# Altium footprint library Passives.PcbLib: 66 footprints (part 2 of 5)
Each footprint in its own frame and in the unit in brackets; x right, y up, seen from the top. Pads: shape width x height; smd on the part's side, far side on the other; paste and mask are expansions set on the pad; w line width, h text height; cw(c..) or ccw(c..) is an arc to the next point about the centre after c.
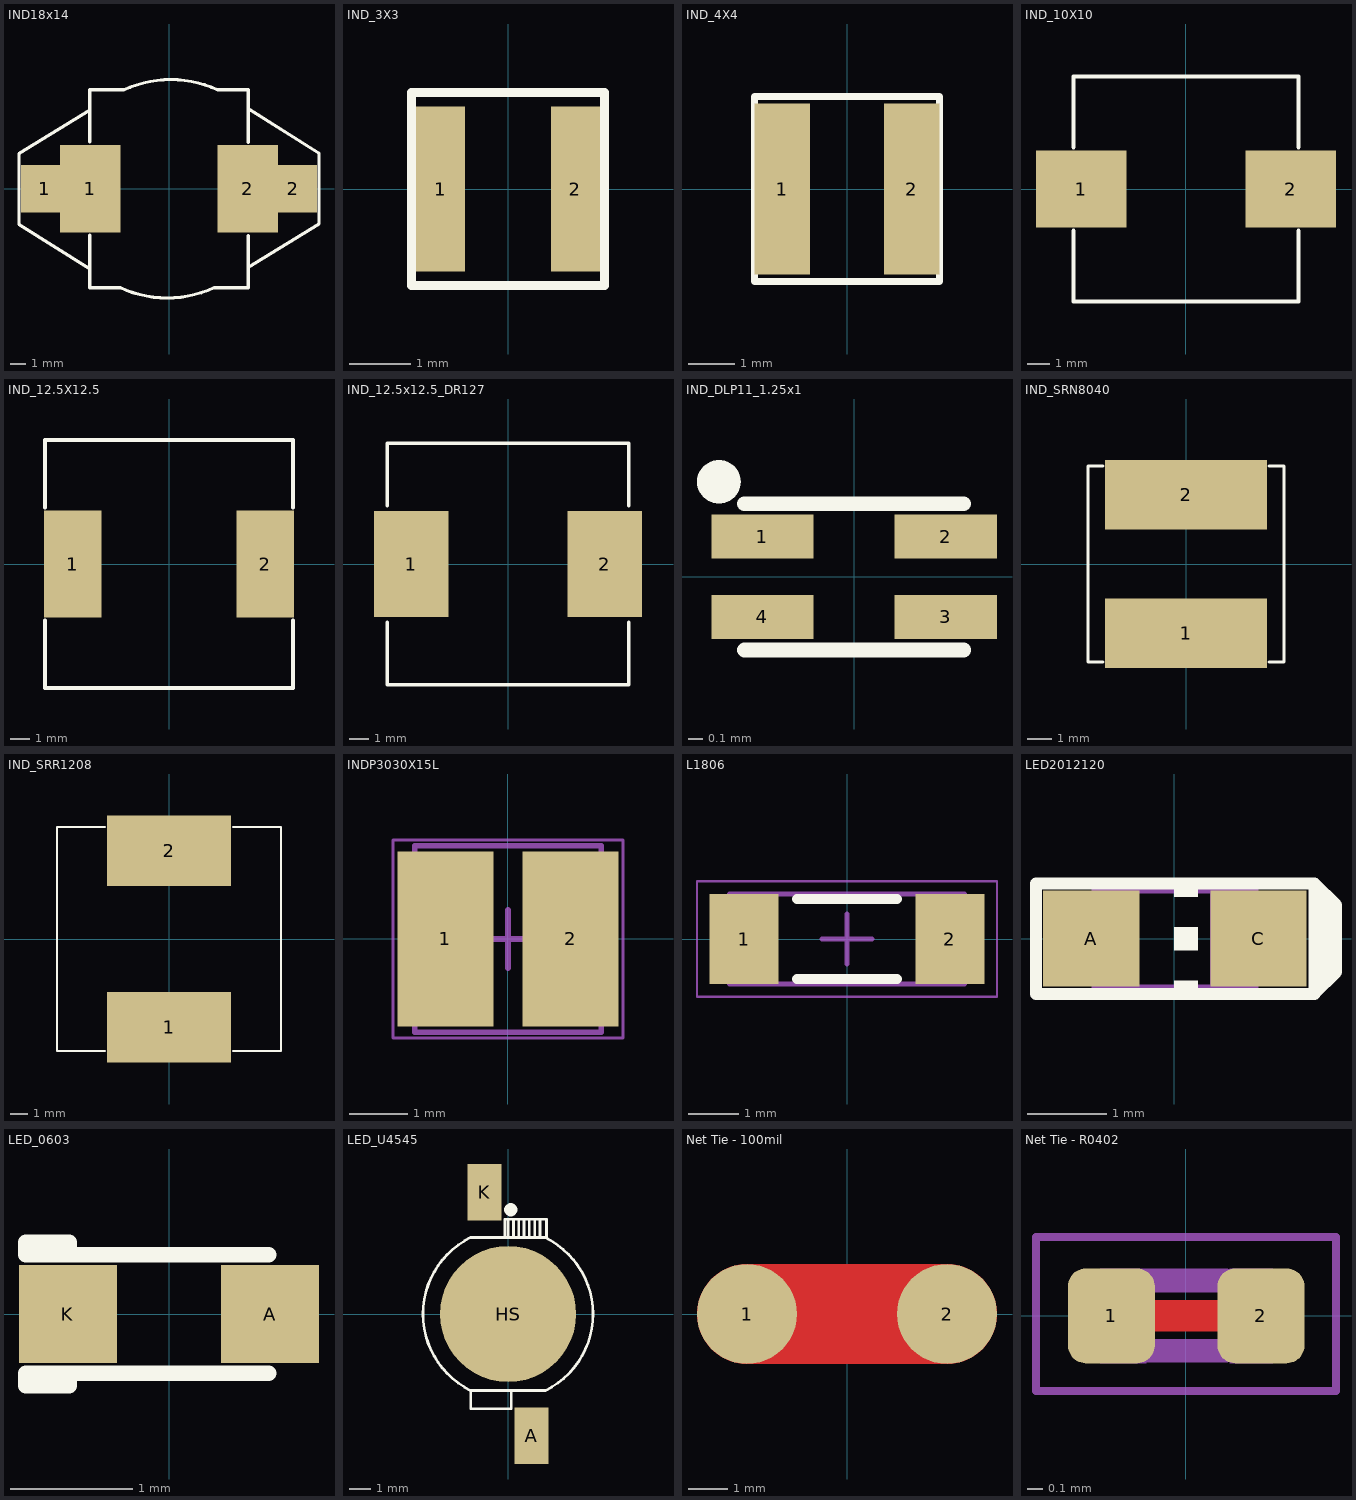
[diagram p1: the footprints below, top view; thin cyan lines are the x and y axes]

## IND18x14 [mm]
height 6.909
pads (4):
  rect 3x3 smd mask+0: 1(-7.85,0) 2(7.85,0)
  rect 3.85x5.5 smd paste-2.3 mask+0: 1(-4.975,0) 2(4.975,0)
Top Overlay:
  lines w0.203: -5,-2.925 -5,-6.25 -3.074,-6.25 ; -5,2.95 -5,6.25 -2.85,6.25 ; -4.999,4.973 -9.475,2.225 -9.475,-2.25 -4.998,-5.071 ; -3.074,-6.248 ccw(c-0.116,0.118) 2.848,-6.245 ; -2.848,6.245 cw(c0.116,-0.118) 3.074,6.248 ccw(c0.115,-0.132) -2.848,6.246 ; 2.85,-6.25 5,-6.25 5,-2.95 ; 3.074,6.25 5,6.25 5,2.925 ; 4.998,5.071 9.475,2.25 9.475,-2.225 4.999,-4.973
3D body "pm5022.stp": height 6.6, standoff 0, extent -9.15,-7 9.15,7

## IND_3X3 [mm]
pads (2):
  rect 0.8x2.7 smd mask+0: 1(-1.1,0) 2(1.1,0)
Top Overlay:
  lines w0.152: -1.575,-1.575 -1.575,1.575 1.575,1.575 1.575,-1.575 -1.575,-1.575
3D body: height 1.2, standoff 0, extent -1.5,-1.5 1.5,1.5

## IND_4X4 [mm]
pads (2):
  rect 1.2x3.7 smd mask+0: 1(-1.4,0) 2(1.4,0)
Top Overlay:
  lines w0.152: -2,-2 -2,2 2,2 2,-2 -2,-2
3D body: height 1.8, standoff 0, extent -2.076,-2.076 2.076,2.076

## IND_10X10 [mm]
height 3.8
pads (2):
  rect 4.1x3.5 smd: 1(-4.75,0) 2(4.75,0)
Top Overlay:
  lines w0.203: -5.1,-1.9 -5.1,-5.1 5.1,-5.1 5.1,-1.9 ; -5.1,1.9 -5.1,5.1 5.1,5.1 5.1,1.9
3D body: height 4, standoff 0, extent -5,-5 5,5

## IND_12.5X12.5 [mm]
height 7.5
pads (2):
  rect 2.9x5.4 smd: 1(-4.85,0) 2(4.85,0)
Top Overlay:
  lines w0.203: -6.25,-2.85 -6.25,-6.25 6.25,-6.25 6.25,-2.85 ; -6.25,2.85 -6.25,6.25 6.25,6.25 6.25,2.85
3D body: height 7.5, standoff 0, extent -6.25,-6.25 6.25,6.25

## IND_12.5x12.5_DR127 [mm]
pads (2):
  rect 3.85x5.5 smd mask+0.051: 1(-5,0) 2(5,0)
Top Overlay:
  lines w0.178: -6.25,-3 -6.25,-6.25 6.25,-6.25 6.25,-3 ; -6.25,3 -6.25,6.25 6.25,6.25 6.25,3
3D body: height 8, standoff 0, extent -6.25,-6.25 6.25,6.25

## IND_DLP11_1.25x1 [mm]
pads (5):
  rect 0.7x0.3 smd: 1(-0.627,0.275) 2(0.627,0.275) 3(0.627,-0.275) 4(-0.627,-0.275)
  round 0.3 on Top Overlay: ""(-0.925,0.65)
Top Overlay:
  lines w0.102: -0.75,-0.5 0.75,-0.5 ; -0.75,0.5 0.75,0.5
3D body: height 0.92, standoff 0, extent -0.75,-0.5 0.75,0.5

## IND_SRN8040 [mm]
pads (2):
  rect 6.6x2.85 smd mask+0: 1(0,-2.825) 2(0,2.825)
Top Overlay:
  lines w0.127: -3.4,-4 -4,-4 -4,4 -3.4,4 ; 3.4,-4 4,-4 4,4 3.4,4
3D body: height 4, standoff 0, extent -4,-4 4,4

## IND_SRR1208 [mm]
pads (2):
  rect 7x4 smd mask+0: 1(0,-5) 2(0,5)
Top Overlay:
  lines w0.127: -3.625,-6.35 -6.35,-6.35 -6.35,6.35 -3.625,6.35 ; 3.625,-6.35 6.35,-6.35 6.35,6.35 3.625,6.35
3D body: height 8.5, standoff 0, extent -6.35,-6.35 6.35,6.35

## INDP3030X15L [mm] "Precision Wire Wound Inductor, 2-Leads, Body 3.00x3.00mm, IPC High Density"
height 1.5
pads (2):
  rect 1.65x3 smd: 1(-1.075,0) 2(1.075,0)
Top Assembly:
  lines w0.1: -1.6,-1.6 1.6,-1.6 1.6,1.6 -1.6,1.6 -1.6,-1.6
Top Courtyard:
  lines w0.05: -1.975,-1.7 1.975,-1.7 1.975,1.7 -1.975,1.7 -1.975,-1.7
  lines w0.1: -0.5,0 0.5,0 ; 0,-0.5 0,0.5
3D body: height 1.5, standoff 0, extent -1.6,-1.6 1.6,1.6

## L1806 [mm] "Chip Inductor, 2-Leads, Body 4.50x1.60mm, IPC Medium Density"
height 1.8
pads (2):
  rect 1.38x1.8 smd: 1(-2.06,0) 2(2.06,0)
Top Overlay:
  lines w0.2: -1,-0.8 1,-0.8 ; -1,0.8 1,0.8
Mechanical 13:
  lines w0.1: -2.35,-0.9 -2.35,0.9 2.35,0.9 2.35,-0.9 -2.35,-0.9
Mechanical 15:
  lines w0.05: -3,-1.15 -3,1.15 3,1.15 3,-1.15 -3,-1.15
  lines w0.1: -0.5,0 0.5,0 ; 0,-0.5 0,0.5
3D body: height 1.8, standoff 0, extent -1.65,-0.9 1.65,0.9
3D body: height 1.8, standoff 0, extent -2.35,-0.9 -1.65,0.9
3D body: height 1.8, standoff 0, extent 1.65,-0.9 2.35,0.9

## LED2012120 [mil]
pads (2):
  rect 48x48 smd: A(-41.34,0) C(42,0)
Top Overlay:
  region: 0,5.9 0,-6 12,-6 12,5.9
  region: 0,-21 0,-27 12,-27 12,-21
  region: 0,26.57 0,20.67 12,20.67 12,26.57
  lines w6: 75.79,-21.65 75.79,19.68 ; 69.88,-27.56 69.88,27.56 ; 69.88,-27.56 -68.9,-27.56 -68.9,27.56 69.88,27.56 ; 69.88,-27.56 80.71,-16.73 80.71,16.73 69.88,27.56
Mechanical 8:
  region: -41.34,26.57 -41.34,-27 -17.72,-27 -17.72,26.57
  region: 18,26.57 18,-27 42,-27 42,26.57
  lines w4: -18.7,-25 18,-25 ; -17.72,24.61 18,24.61
3D body: height 11.81, standoff 0, extent -50,-25 50,25
3D body: height 27.56, standoff 0, extent -30,-25 30,25
3D body: height 15.75, standoff 0, extent 20,-10 35,10

## LED_0603 [mm]
pads (2):
  rect 0.8x0.8 smd: A(0.825,0) K(-0.825,0)
Top Overlay:
  lines w0.127: 0.813,-0.483 -0.813,-0.483 ; 0.813,0.483 -0.813,0.483 ; -0.813,-0.483 -1.168,-0.483 -1.168,-0.584 -0.813,-0.584 -0.813,-0.483 ; -0.813,0.483 -1.168,0.483 -1.168,0.584 -0.813,0.584 -0.813,0.483
3D body "SML-D12x1.step": height 0.55, standoff 0, extent -0.8,-0.4 0.8,0.4

## LED_U4545 [mm]
pads (4):
  rect 1.6x2.65 smd mask+0.051: A(1.1,-5.725) K(-1.1,5.725)
  round 6.4 smd paste-3.226 mask+0.051: HS(0,0)
  round 0.635 on Top Overlay mask+0.051: ""(0.125,4.9)
Top Overlay:
  lines w0.127: -1.75,3.6 1.8,3.6 1.8,4.45 -0.15,4.45 -0.15,3.6 ; -1.749,-3.597 cw(c0,0) -1.749,3.597 ; 0,3.6 0,4.45 ; 0.15,-3.6 0.15,-4.45 -1.75,-4.45 -1.75,-3.6 1.749,-3.6 ; 0.25,3.6 0.25,4.45 ; 0.5,3.6 0.5,4.45 ; 0.75,3.6 0.75,4.45 ; 1,3.6 1,4.45 ; 1.25,3.6 1.25,4.45 ; 1.5,3.6 1.5,4.45 ; 1.724,3.598 cw(c-0.01,-0.006) 1.749,-3.599
Top Paste:
  region: -0.275,-0.275 -2.65,-0.275 -2.65,-0.509 -2.559,-0.968 -2.38,-1.4 -2.12,-1.789 -1.789,-2.12 -1.4,-2.38 -0.968,-2.559 -0.509,-2.65 -0.275,-2.65
  region: -0.275,0.275 -0.275,2.65 -0.509,2.65 -0.968,2.559 -1.4,2.38 -1.789,2.12 -2.12,1.789 -2.38,1.4 -2.559,0.968 -2.65,0.509 -2.65,0.275
  region: 0.275,0.275 2.65,0.275 2.65,0.509 2.559,0.968 2.38,1.4 2.12,1.789 1.789,2.12 1.4,2.38 0.968,2.559 0.509,2.65 0.275,2.65
  region: 0.275,-0.275 0.275,-2.65 0.509,-2.65 0.968,-2.559 1.4,-2.38 1.789,-2.12 2.12,-1.789 2.38,-1.4 2.559,-0.968 2.65,-0.509 2.65,-0.275
3D body: height 5.2, standoff 0, extent -4,-3.6 4,3.6

## Net Tie - 100mil [mm]
pads (2):
  round 2.54 smd paste-2.54 mask-2.54: 1(-2.54,0) 2(2.54,0)
Top Layer:
  lines w2.54: -2.54,0 2.54,0
Top Solder:
  rectangle: -1.524,-1.372 1.524,1.372
Mechanical 8:
  rectangle: -0.554,-0.305 -0.254,0.305
  rectangle: 0.279,-0.305 0.559,0.305
  lines w0.152: -0.245,-0.224 0.254,-0.224 ; -0.245,0.229 0.254,0.229

## Net Tie - R0402 [mil]
pads (2):
  rrect40% 22x24 smd: 1(-18.9,0) 2(19,0)
Top Layer:
  lines w8: -18.9,0 19,0
Top Solder:
  region: -7.87,9.84 -7.87,-9.84 8.86,-9.84 8.86,9.84
Mechanical 8:
  rectangle: -21.81,-12 -10,12
  rectangle: 11,-12 22,12
  lines w6: -9.65,-8.82 10,-8.82 ; -9.65,9 10,9
Mechanical 15:
  lines w2: -37.99,-19.02 38,-19.02 38,20 -37.99,20 -37.99,-19.02
3D body: height 13.78, standoff 0, extent -20,-10 20,10